# Altium schematic symbol library BQ298000.SchLib: 1 symbol
Pins are listed as number, name and electrical type; pins without a type are passive.

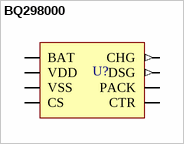
[diagram p0: symbol BQ298000]

## BQ298000
designator U?  (value not drawn)
pins: 1 BAT, 2 VDD, 3 VSS, 4 CS, 5 CTR, 6 PACK, 7 DSG (out), 8 CHG (out)